# EAGLE library part RF-400-4-DCT (library NewSDR)
RF-400 Binocular Transformer with Primary and Secondary Center Tap
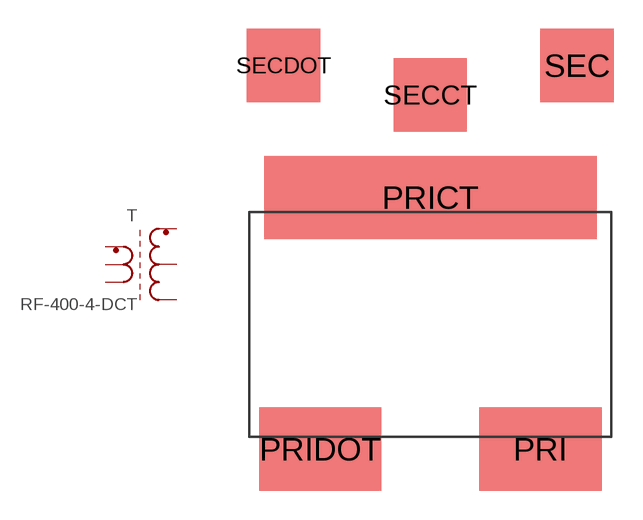
[diagram p208: symbol with the pads of RF-400-4; footprint RF-400-4]

Designator prefix T

## RF-400-4-DCT-DCT  [RF-400-4]
PRI  PRI  pas
PRICT  PRICT  pas
PRIDOT  PRIDOT  pas
SEC  SEC  pas
SECCT  SECCT  pas
SECDOT  SECDOT  pas

## Footprint RF-400-4 (pad centres in mm)
0.4" Binocular Tranformer with 4:1 Step Down and Center Tap Input/Output
smd 6.35 x 4.318: PRI 5.715,-8.255; PRIDOT -5.715,-8.255
smd 17.272 x 4.318: PRICT 0,4.826
smd 3.81 x 3.81: SEC 7.62,11.684; SECCT 0,10.16; SECDOT -7.62,11.684